# Altium integrated library Linear Technology Power Management LDO Linear Regulators.IntLib: 2339 symbols (part 104 of 131)
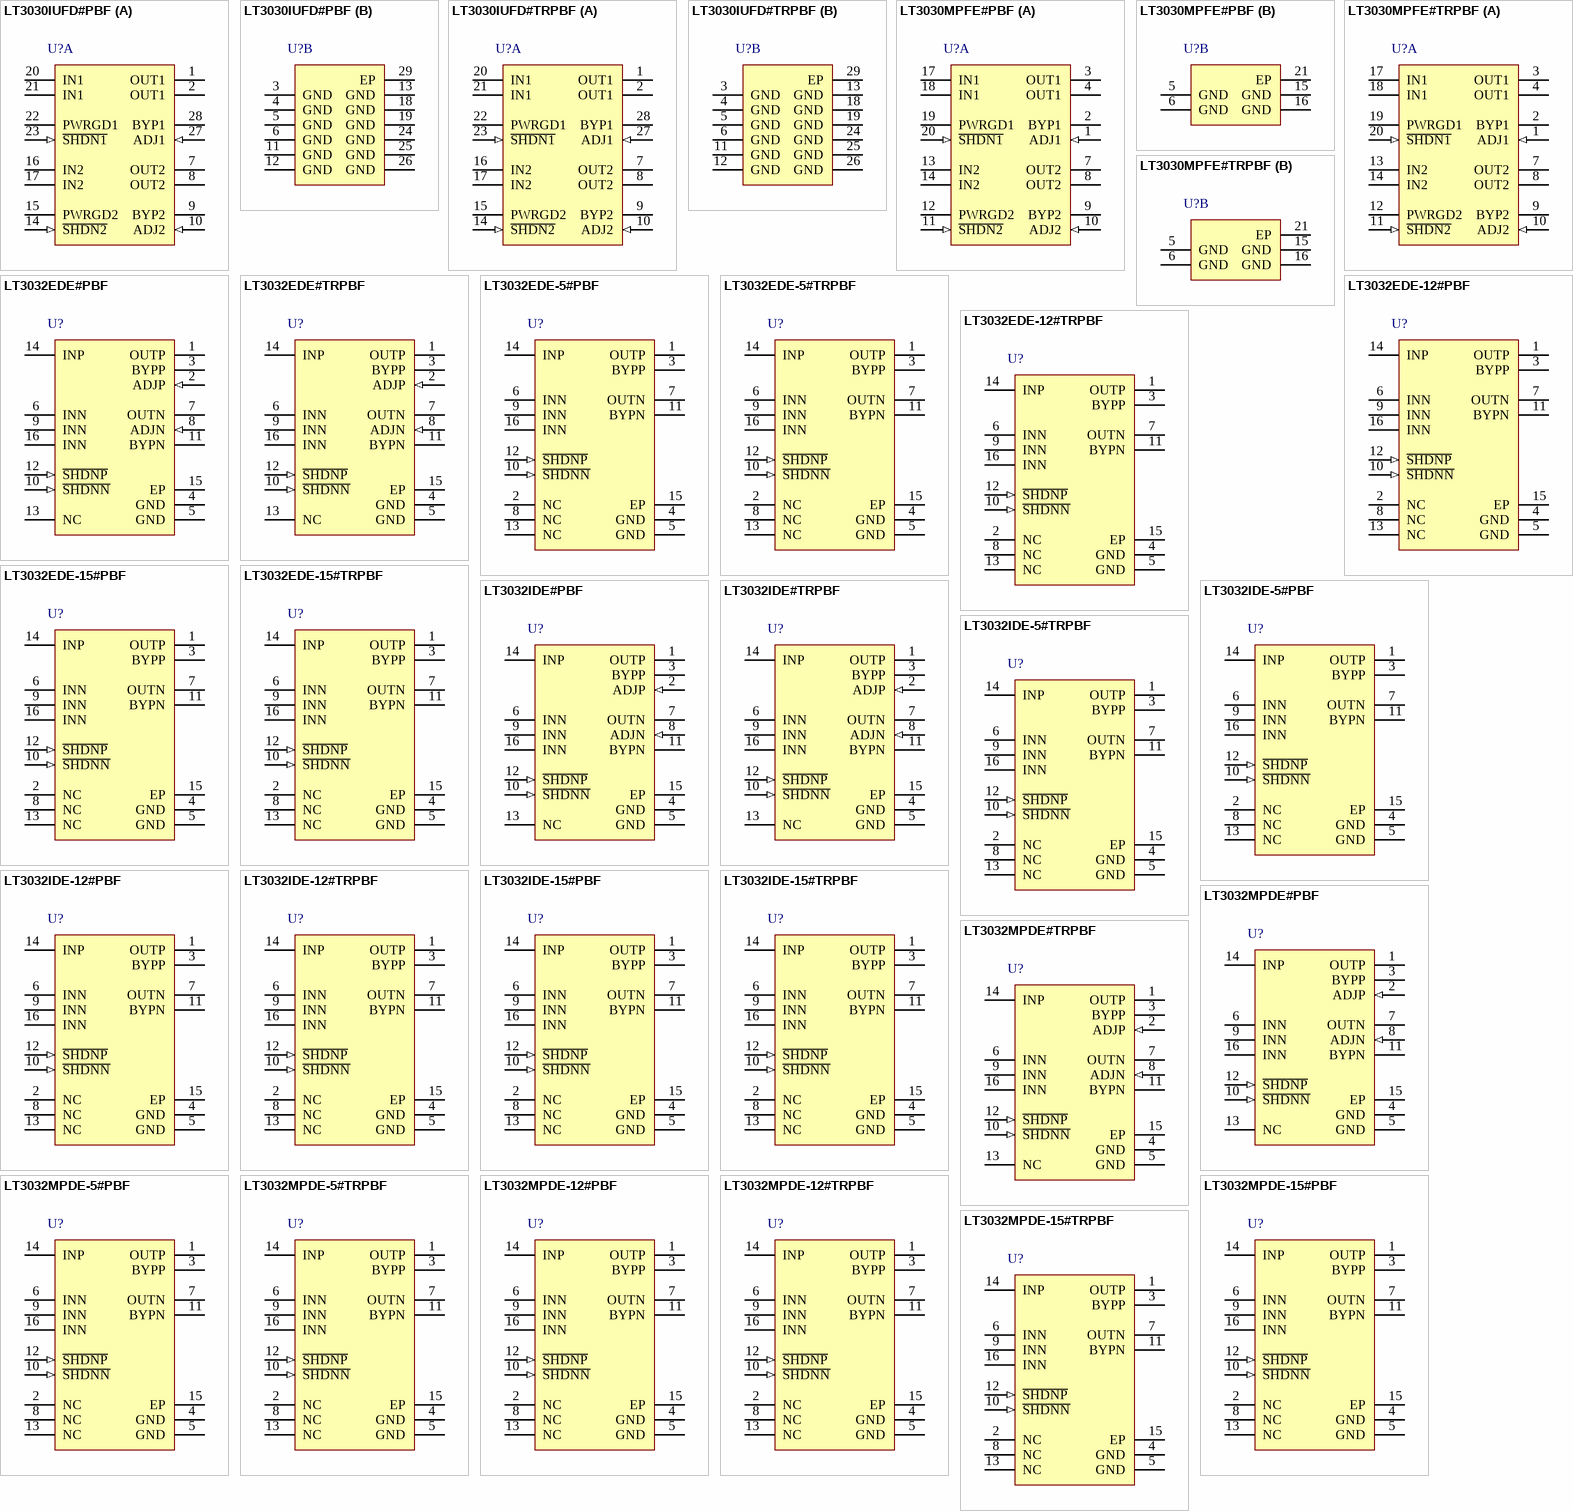
[diagram p172: symbols LT3030IUFD#PBF to LT3032MPDE-15#TRPBF]

## LT3032IDE-12#PBF
designator U?
Dual 150 mA Positive / Negative Low Noise Low Dropout Linear Regulator, +/-2.3 to +/-20 V Vin, +/-12 V Vout, 14-pin SON (DE14MA-14), -40 to 125 degC, Pb-Free; Manufacturer: Linear Technology; PartNumber: LT3032IDE-12#PBF; Discrete Pass Element: no; Dropout Voltage(V): 0.3; Iout(mA): 150; Isupply(mA): 0.025; Noise(uV): 30; Number of Outputs: 2; Output Voltage: +/-12V; PSRR(dB): 68; Shutdown Current(uA): 0.1; DatasheetVersion: Rev. D; PackageVersion: Rev. A, 06/2010; PackageReference: DE14MA-14; PackageDescription: 14-Pin Plastic DFN, Body 4 x 3 mm, Pitch 0.5 mm; Supplier 1: Digi-Key; Supplier Part Number 1: LT3032IDE-12#PBF-ND; RoHS: TRUE; Vin Max(V): +/-20; Vin Min(V): +/-2.3; Vout Max(V): +/-12; Vout Min(V): +/-12; Mounting Technology: Surface Mount; ComponentLink1Description: Manufacturer URL; ComponentLink1URL: http://www.linear.com/; ComponentLink2Description: Datasheet; ComponentLink2URL: http://cds.linear.com/docs/en/datasheet/3032fd.pdf; ComponentLink3Description: Package Specification; ComponentLink3URL: http://cds.linear.com/docs/en/packaging/DFN_14_05-08-1731.pdf
footprint LT-DE14MA-14_V (DE14MA, 14-Leads, Body 4x3mm, Pitch 0.5mm)
pins: 1 OUTP (power) "Positive Output. This output supplies power to the positive side load. A minimum output capacitor of 2.2uF is required to prevent oscillations. Larger output capacitors are required for applications with large transient (See Datasheet)", 2 NC "No Connect. The No Connect pin has no connection to internal circuitry and may be tied to INP, GND, INN, S\H\D\N\P\, S\H\D\N\N\, OUTP, OUTN, floated, or tied to any other point.", 3 BYPP "Positive Bypass. The BYPP pin is used to bypass the reference of the positive side regulator to achieve low noise performance. The BYPP pin is clamped internally to +/-0.6V (one VBE). A small capacitor from OUTP to this pin (See Datasheet)", 4 GND (power) "Ground. One of the DFN's exposed backside pads (Pin 15) is an electrical connection to ground. To ensure proper electrical and thermal performance, solder Pin 15 to the PCB's ground and tie directly to Pins 4 and(See Datasheet)", 5 GND (power) "Ground. One of the DFN's exposed backside pads (Pin 15) is an electrical connection to ground. To ensure proper electrical and thermal performance, solder Pin 15 to the PCB's ground and tie directly to Pins 4 and(See Datasheet)", 6 INN (power) "Negative Input. The DFN package's second exposed backside pad (Pin 16) is an electrical connection to INN. To ensure proper electrical and thermal performance, solder Pin 16 to the PCB's negative input supply and (See Datasheet)", 7 OUTN (power) "Negative Output. This output supplies power to the negative side load. A minimum output capacitor of 1uF is required to prevent oscillations. Larger output capacitors are required for applications with large transient loads (See Datasheet)", 8 NC "No Connect. The No Connect pin has no connection to internal circuitry and may be tied to INP, GND, INN, S\H\D\N\P\, S\H\D\N\N\, OUTP, OUTN, floated, or tied to any other point.", 9 INN (power) "Negative Input. The DFN package's second exposed backside pad (Pin 16) is an electrical connection to INN. To ensure proper electrical and thermal performance, solder Pin 16 to the PCB's negative input supply and (See Datasheet)", 10 ~{SHDNN} (in) "Negative Shutdown. The S\H\D\N\N\ pin puts the negative side into a low power shutdown state. The S\H\D\N\N\ pin is referenced to ground for regulator control, allowing the negative side to be driven by either positive or (See Datasheet)", 11 BYPN "Negative Bypass. The BYPN pin is used to bypass the reference of the negative side regulator to achieve low noise performance. A small capacitor from OUTN to this pin will bypass the reference to lower the output voltage (See Datasheet)", 12 ~{SHDNP} (in) "Positive Shutdown. The S\H\D\N\P\ pin puts the positive side into a low power shutdown state. The positive output will be off when the S\H\D\N\P\ pin is pulled below 0.6V(typical). The S\H\D\N\P\ pin can be driven by 5V (See Datasheet)", 13 NC "No Connect. The No Connect pin has no connection to internal circuitry and may be tied to INP, GND, INN, S\H\D\N\P\, S\H\D\N\N\, OUTP, OUTN, floated, or tied to any other point.", 14 INP (power) "Positive Input. Power is supplied to the positive side of the LT3032 through the INP pin. A bypass capacitor is required on this pin if it is more than six inches away from the main input filter capacitor. In general, the (See Datasheet)", 15 EP (power) "Ground. One of the DFN's exposed backside pads (Pin 15) is an electrical connection to ground. To ensure proper electrical and thermal performance, solder Pin 15 to the PCB's ground and tie directly to Pins 4 and(See Datasheet)", 16 INN (power) "Negative Input. The DFN package's second exposed backside pad (Pin 16) is an electrical connection to INN. To ensure proper electrical and thermal performance, solder Pin 16 to the PCB's negative input supply and (See Datasheet)"

## LT3032IDE-12#TRPBF
designator U?
Dual 150 mA Positive / Negative Low Noise Low Dropout Linear Regulator, +/-2.3 to +/-20 V Vin, +/-12 V Vout, 14-pin SON (DE14MA-14), -40 to 125 degC, Pb-Free, Tape and Reel; Manufacturer: Linear Technology; PartNumber: LT3032IDE-12#TRPBF; Discrete Pass Element: no; Dropout Voltage(V): 0.3; Iout(mA): 150; Isupply(mA): 0.025; Noise(uV): 30; Number of Outputs: 2; Output Voltage: +/-12V; PSRR(dB): 68; Shutdown Current(uA): 0.1; DatasheetVersion: Rev. D; PackageVersion: Rev. A, 06/2010; PackageReference: DE14MA-14; PackageDescription: 14-Pin Plastic DFN, Body 4 x 3 mm, Pitch 0.5 mm; Supplier 1: Digi-Key; Supplier Part Number 1: LT3032IDE-12#TRPBF-ND; Supplier 2: Newark; Supplier Part Number 2: 78T3945; Packing: Tape and Reel; RoHS: TRUE; Vin Max(V): +/-20; Vin Min(V): +/-2.3; Vout Max(V): +/-12; Vout Min(V): +/-12; Mounting Technology: Surface Mount; ComponentLink1Description: Manufacturer URL; ComponentLink1URL: http://www.linear.com/; ComponentLink2Description: Datasheet; ComponentLink2URL: http://cds.linear.com/docs/en/datasheet/3032fd.pdf; ComponentLink3Description: Package Specification; ComponentLink3URL: http://cds.linear.com/docs/en/packaging/DFN_14_05-08-1731.pdf
footprint LT-DE14MA-14_V (DE14MA, 14-Leads, Body 4x3mm, Pitch 0.5mm)
pins: 1 OUTP (power) "Positive Output. This output supplies power to the positive side load. A minimum output capacitor of 2.2uF is required to prevent oscillations. Larger output capacitors are required for applications with large transient (See Datasheet)", 2 NC "No Connect. The No Connect pin has no connection to internal circuitry and may be tied to INP, GND, INN, S\H\D\N\P\, S\H\D\N\N\, OUTP, OUTN, floated, or tied to any other point.", 3 BYPP "Positive Bypass. The BYPP pin is used to bypass the reference of the positive side regulator to achieve low noise performance. The BYPP pin is clamped internally to +/-0.6V (one VBE). A small capacitor from OUTP to this pin (See Datasheet)", 4 GND (power) "Ground. One of the DFN's exposed backside pads (Pin 15) is an electrical connection to ground. To ensure proper electrical and thermal performance, solder Pin 15 to the PCB's ground and tie directly to Pins 4 and(See Datasheet)", 5 GND (power) "Ground. One of the DFN's exposed backside pads (Pin 15) is an electrical connection to ground. To ensure proper electrical and thermal performance, solder Pin 15 to the PCB's ground and tie directly to Pins 4 and(See Datasheet)", 6 INN (power) "Negative Input. The DFN package's second exposed backside pad (Pin 16) is an electrical connection to INN. To ensure proper electrical and thermal performance, solder Pin 16 to the PCB's negative input supply and (See Datasheet)", 7 OUTN (power) "Negative Output. This output supplies power to the negative side load. A minimum output capacitor of 1uF is required to prevent oscillations. Larger output capacitors are required for applications with large transient loads (See Datasheet)", 8 NC "No Connect. The No Connect pin has no connection to internal circuitry and may be tied to INP, GND, INN, S\H\D\N\P\, S\H\D\N\N\, OUTP, OUTN, floated, or tied to any other point.", 9 INN (power) "Negative Input. The DFN package's second exposed backside pad (Pin 16) is an electrical connection to INN. To ensure proper electrical and thermal performance, solder Pin 16 to the PCB's negative input supply and (See Datasheet)", 10 ~{SHDNN} (in) "Negative Shutdown. The S\H\D\N\N\ pin puts the negative side into a low power shutdown state. The S\H\D\N\N\ pin is referenced to ground for regulator control, allowing the negative side to be driven by either positive or (See Datasheet)", 11 BYPN "Negative Bypass. The BYPN pin is used to bypass the reference of the negative side regulator to achieve low noise performance. A small capacitor from OUTN to this pin will bypass the reference to lower the output voltage (See Datasheet)", 12 ~{SHDNP} (in) "Positive Shutdown. The S\H\D\N\P\ pin puts the positive side into a low power shutdown state. The positive output will be off when the S\H\D\N\P\ pin is pulled below 0.6V(typical). The S\H\D\N\P\ pin can be driven by 5V (See Datasheet)", 13 NC "No Connect. The No Connect pin has no connection to internal circuitry and may be tied to INP, GND, INN, S\H\D\N\P\, S\H\D\N\N\, OUTP, OUTN, floated, or tied to any other point.", 14 INP (power) "Positive Input. Power is supplied to the positive side of the LT3032 through the INP pin. A bypass capacitor is required on this pin if it is more than six inches away from the main input filter capacitor. In general, the (See Datasheet)", 15 EP (power) "Ground. One of the DFN's exposed backside pads (Pin 15) is an electrical connection to ground. To ensure proper electrical and thermal performance, solder Pin 15 to the PCB's ground and tie directly to Pins 4 and(See Datasheet)", 16 INN (power) "Negative Input. The DFN package's second exposed backside pad (Pin 16) is an electrical connection to INN. To ensure proper electrical and thermal performance, solder Pin 16 to the PCB's negative input supply and (See Datasheet)"

## LT3032IDE-15#PBF
designator U?
Dual 150 mA Positive / Negative Low Noise Low Dropout Linear Regulator, +/-2.3 to +/-20 V Vin, +/-15 V Vout, 14-pin SON (DE14MA-14), -40 to 125 degC, Pb-Free; Manufacturer: Linear Technology; PartNumber: LT3032IDE-15#PBF; Discrete Pass Element: no; Dropout Voltage(V): 0.3; Iout(mA): 150; Isupply(mA): 0.025; Noise(uV): 30; Number of Outputs: 2; Output Voltage: +/-15V; PSRR(dB): 68; Shutdown Current(uA): 0.1; DatasheetVersion: Rev. D; PackageVersion: Rev. A, 06/2010; PackageReference: DE14MA-14; PackageDescription: 14-Pin Plastic DFN, Body 4 x 3 mm, Pitch 0.5 mm; Supplier 1: Digi-Key; Supplier Part Number 1: LT3032IDE-15#PBF-ND; Supplier 2: Newark; Supplier Part Number 2: 78T3946; RoHS: TRUE; Vin Max(V): +/-20; Vin Min(V): +/-2.3; Vout Max(V): +/-15; Vout Min(V): +/-15; Mounting Technology: Surface Mount; ComponentLink1Description: Manufacturer URL; ComponentLink1URL: http://www.linear.com/; ComponentLink2Description: Datasheet; ComponentLink2URL: http://cds.linear.com/docs/en/datasheet/3032fd.pdf; ComponentLink3Description: Package Specification; ComponentLink3URL: http://cds.linear.com/docs/en/packaging/DFN_14_05-08-1731.pdf
footprint LT-DE14MA-14_V (DE14MA, 14-Leads, Body 4x3mm, Pitch 0.5mm)
pins: 1 OUTP (power) "Positive Output. This output supplies power to the positive side load. A minimum output capacitor of 2.2uF is required to prevent oscillations. Larger output capacitors are required for applications with large transient (See Datasheet)", 2 NC "No Connect. The No Connect pin has no connection to internal circuitry and may be tied to INP, GND, INN, S\H\D\N\P\, S\H\D\N\N\, OUTP, OUTN, floated, or tied to any other point.", 3 BYPP "Positive Bypass. The BYPP pin is used to bypass the reference of the positive side regulator to achieve low noise performance. The BYPP pin is clamped internally to +/-0.6V (one VBE). A small capacitor from OUTP to this pin (See Datasheet)", 4 GND (power) "Ground. One of the DFN's exposed backside pads (Pin 15) is an electrical connection to ground. To ensure proper electrical and thermal performance, solder Pin 15 to the PCB's ground and tie directly to Pins 4 and(See Datasheet)", 5 GND (power) "Ground. One of the DFN's exposed backside pads (Pin 15) is an electrical connection to ground. To ensure proper electrical and thermal performance, solder Pin 15 to the PCB's ground and tie directly to Pins 4 and(See Datasheet)", 6 INN (power) "Negative Input. The DFN package's second exposed backside pad (Pin 16) is an electrical connection to INN. To ensure proper electrical and thermal performance, solder Pin 16 to the PCB's negative input supply and (See Datasheet)", 7 OUTN (power) "Negative Output. This output supplies power to the negative side load. A minimum output capacitor of 1uF is required to prevent oscillations. Larger output capacitors are required for applications with large transient loads (See Datasheet)", 8 NC "No Connect. The No Connect pin has no connection to internal circuitry and may be tied to INP, GND, INN, S\H\D\N\P\, S\H\D\N\N\, OUTP, OUTN, floated, or tied to any other point.", 9 INN (power) "Negative Input. The DFN package's second exposed backside pad (Pin 16) is an electrical connection to INN. To ensure proper electrical and thermal performance, solder Pin 16 to the PCB's negative input supply and (See Datasheet)", 10 ~{SHDNN} (in) "Negative Shutdown. The S\H\D\N\N\ pin puts the negative side into a low power shutdown state. The S\H\D\N\N\ pin is referenced to ground for regulator control, allowing the negative side to be driven by either positive or (See Datasheet)", 11 BYPN "Negative Bypass. The BYPN pin is used to bypass the reference of the negative side regulator to achieve low noise performance. A small capacitor from OUTN to this pin will bypass the reference to lower the output voltage (See Datasheet)", 12 ~{SHDNP} (in) "Positive Shutdown. The S\H\D\N\P\ pin puts the positive side into a low power shutdown state. The positive output will be off when the S\H\D\N\P\ pin is pulled below 0.6V(typical). The S\H\D\N\P\ pin can be driven by 5V (See Datasheet)", 13 NC "No Connect. The No Connect pin has no connection to internal circuitry and may be tied to INP, GND, INN, S\H\D\N\P\, S\H\D\N\N\, OUTP, OUTN, floated, or tied to any other point.", 14 INP (power) "Positive Input. Power is supplied to the positive side of the LT3032 through the INP pin. A bypass capacitor is required on this pin if it is more than six inches away from the main input filter capacitor. In general, the (See Datasheet)", 15 EP (power) "Ground. One of the DFN's exposed backside pads (Pin 15) is an electrical connection to ground. To ensure proper electrical and thermal performance, solder Pin 15 to the PCB's ground and tie directly to Pins 4 and(See Datasheet)", 16 INN (power) "Negative Input. The DFN package's second exposed backside pad (Pin 16) is an electrical connection to INN. To ensure proper electrical and thermal performance, solder Pin 16 to the PCB's negative input supply and (See Datasheet)"

## LT3032IDE-15#TRPBF
designator U?
Dual 150 mA Positive / Negative Low Noise Low Dropout Linear Regulator, +/-2.3 to +/-20 V Vin, +/-15 V Vout, 14-pin SON (DE14MA-14), -40 to 125 degC, Pb-Free, Tape and Reel; Manufacturer: Linear Technology; PartNumber: LT3032IDE-15#TRPBF; Discrete Pass Element: no; Dropout Voltage(V): 0.3; Iout(mA): 150; Isupply(mA): 0.025; Noise(uV): 30; Number of Outputs: 2; Output Voltage: +/-15V; PSRR(dB): 68; Shutdown Current(uA): 0.1; DatasheetVersion: Rev. D; PackageVersion: Rev. A, 06/2010; PackageReference: DE14MA-14; PackageDescription: 14-Pin Plastic DFN, Body 4 x 3 mm, Pitch 0.5 mm; Supplier 1: Digi-Key; Supplier Part Number 1: LT3032IDE-15#TRPBF-ND; Packing: Tape and Reel; RoHS: TRUE; Vin Max(V): +/-20; Vin Min(V): +/-2.3; Vout Max(V): +/-15; Vout Min(V): +/-15; Mounting Technology: Surface Mount; ComponentLink1Description: Manufacturer URL; ComponentLink1URL: http://www.linear.com/; ComponentLink2Description: Datasheet; ComponentLink2URL: http://cds.linear.com/docs/en/datasheet/3032fd.pdf; ComponentLink3Description: Package Specification; ComponentLink3URL: http://cds.linear.com/docs/en/packaging/DFN_14_05-08-1731.pdf
footprint LT-DE14MA-14_V (DE14MA, 14-Leads, Body 4x3mm, Pitch 0.5mm)
pins: 1 OUTP (power) "Positive Output. This output supplies power to the positive side load. A minimum output capacitor of 2.2uF is required to prevent oscillations. Larger output capacitors are required for applications with large transient (See Datasheet)", 2 NC "No Connect. The No Connect pin has no connection to internal circuitry and may be tied to INP, GND, INN, S\H\D\N\P\, S\H\D\N\N\, OUTP, OUTN, floated, or tied to any other point.", 3 BYPP "Positive Bypass. The BYPP pin is used to bypass the reference of the positive side regulator to achieve low noise performance. The BYPP pin is clamped internally to +/-0.6V (one VBE). A small capacitor from OUTP to this pin (See Datasheet)", 4 GND (power) "Ground. One of the DFN's exposed backside pads (Pin 15) is an electrical connection to ground. To ensure proper electrical and thermal performance, solder Pin 15 to the PCB's ground and tie directly to Pins 4 and(See Datasheet)", 5 GND (power) "Ground. One of the DFN's exposed backside pads (Pin 15) is an electrical connection to ground. To ensure proper electrical and thermal performance, solder Pin 15 to the PCB's ground and tie directly to Pins 4 and(See Datasheet)", 6 INN (power) "Negative Input. The DFN package's second exposed backside pad (Pin 16) is an electrical connection to INN. To ensure proper electrical and thermal performance, solder Pin 16 to the PCB's negative input supply and (See Datasheet)", 7 OUTN (power) "Negative Output. This output supplies power to the negative side load. A minimum output capacitor of 1uF is required to prevent oscillations. Larger output capacitors are required for applications with large transient loads (See Datasheet)", 8 NC "No Connect. The No Connect pin has no connection to internal circuitry and may be tied to INP, GND, INN, S\H\D\N\P\, S\H\D\N\N\, OUTP, OUTN, floated, or tied to any other point.", 9 INN (power) "Negative Input. The DFN package's second exposed backside pad (Pin 16) is an electrical connection to INN. To ensure proper electrical and thermal performance, solder Pin 16 to the PCB's negative input supply and (See Datasheet)", 10 ~{SHDNN} (in) "Negative Shutdown. The S\H\D\N\N\ pin puts the negative side into a low power shutdown state. The S\H\D\N\N\ pin is referenced to ground for regulator control, allowing the negative side to be driven by either positive or (See Datasheet)", 11 BYPN "Negative Bypass. The BYPN pin is used to bypass the reference of the negative side regulator to achieve low noise performance. A small capacitor from OUTN to this pin will bypass the reference to lower the output voltage (See Datasheet)", 12 ~{SHDNP} (in) "Positive Shutdown. The S\H\D\N\P\ pin puts the positive side into a low power shutdown state. The positive output will be off when the S\H\D\N\P\ pin is pulled below 0.6V(typical). The S\H\D\N\P\ pin can be driven by 5V (See Datasheet)", 13 NC "No Connect. The No Connect pin has no connection to internal circuitry and may be tied to INP, GND, INN, S\H\D\N\P\, S\H\D\N\N\, OUTP, OUTN, floated, or tied to any other point.", 14 INP (power) "Positive Input. Power is supplied to the positive side of the LT3032 through the INP pin. A bypass capacitor is required on this pin if it is more than six inches away from the main input filter capacitor. In general, the (See Datasheet)", 15 EP (power) "Ground. One of the DFN's exposed backside pads (Pin 15) is an electrical connection to ground. To ensure proper electrical and thermal performance, solder Pin 15 to the PCB's ground and tie directly to Pins 4 and(See Datasheet)", 16 INN (power) "Negative Input. The DFN package's second exposed backside pad (Pin 16) is an electrical connection to INN. To ensure proper electrical and thermal performance, solder Pin 16 to the PCB's negative input supply and (See Datasheet)"

## LT3032MPDE#PBF
designator U?
Dual 150 mA Positive / Negative Low Noise Low Dropout Linear Regulator, +/-2.3 to +/-20 V Vin, Adjustable Vout, 14-pin SON (DE14MA-14), -55 to 125 degC, Pb-Free; Manufacturer: Linear Technology; PartNumber: LT3032MPDE#PBF; Discrete Pass Element: no; Dropout Voltage(V): 0.3; Iout(mA): 150; Isupply(mA): 0.025; Noise(uV): 30; Number of Outputs: 2; Output Voltage: Adj,-Adj; PSRR(dB): 68; Shutdown Current(uA): 0.1; Vout Min(V): +/-1.22; DatasheetVersion: Rev. D; PackageVersion: Rev. A, 06/2010; PackageReference: DE14MA-14; PackageDescription: 14-Pin Plastic DFN, Body 4 x 3 mm, Pitch 0.5 mm; Supplier 1: Digi-Key; Supplier Part Number 1: LT3032MPDE#PBF-ND; Supplier 2: Newark; Supplier Part Number 2: 94T1345; RoHS: TRUE; Vin Max(V): +/-20; Vin Min(V): +/-2.3; Vout Max(V): +/-20; Mounting Technology: Surface Mount; ComponentLink1Description: Manufacturer URL; ComponentLink1URL: http://www.linear.com/; ComponentLink2Description: Datasheet; ComponentLink2URL: http://cds.linear.com/docs/en/datasheet/3032fd.pdf; ComponentLink3Description: Package Specification; ComponentLink3URL: http://cds.linear.com/docs/en/packaging/DFN_14_05-08-1731.pdf
footprint LT-DE14MA-14_V (DE14MA, 14-Leads, Body 4x3mm, Pitch 0.5mm)
pins: 1 OUTP (power) "Positive Output. This output supplies power to the positive side load. A minimum output capacitor of 2.2uF is required to prevent oscillations. Larger output capacitors are required for applications with large transient (See Datasheet)", 2 ADJP (in) "Positive Adjust. This is the input to the positive side error amplifier. This pin is internally clamped to +/-7V. It has a typical bias current of 30nA which flows into the pin (see curve of ADJP Pin Bias Current vs (See Datasheet)", 3 BYPP "Positive Bypass. The BYPP pin is used to bypass the reference of the positive side regulator to achieve low noise performance. The BYPP pin is clamped internally to +/-0.6V (one VBE). A small capacitor from OUTP to this pin (See Datasheet)", 4 GND (power) "Ground. One of the DFN's exposed backside pads (Pin 15) is an electrical connection to ground. To ensure proper electrical and thermal performance, solder Pin 15 to the PCB's ground and tie directly to Pins 4 and(See Datasheet)", 5 GND (power) "Ground. One of the DFN's exposed backside pads (Pin 15) is an electrical connection to ground. To ensure proper electrical and thermal performance, solder Pin 15 to the PCB's ground and tie directly to Pins 4 and(See Datasheet)", 6 INN (power) "Negative Input. The DFN package's second exposed backside pad (Pin 16) is an electrical connection to INN. To ensure proper electrical and thermal performance, solder Pin 16 to the PCB's negative input supply and (See Datasheet)", 7 OUTN (power) "Negative Output. This output supplies power to the negative side load. A minimum output capacitor of 1uF is required to prevent oscillations. Larger output capacitors are required for applications with large transient loads (See Datasheet)", 8 ADJN (in) "Negative Adjust. This is the input to the negative side error amplifier. The ADJN pin has a typical bias current of 30nA that flows out of the pin. The ADJN pin voltage is -1.22V referenced to ground, and the output voltage (See Datasheet)", 9 INN (power) "Negative Input. The DFN package's second exposed backside pad (Pin 16) is an electrical connection to INN. To ensure proper electrical and thermal performance, solder Pin 16 to the PCB's negative input supply and (See Datasheet)", 10 ~{SHDNN} (in) "Negative Shutdown. The S\H\D\N\N\ pin puts the negative side into a low power shutdown state. The S\H\D\N\N\ pin is referenced to ground for regulator control, allowing the negative side to be driven by either positive or (See Datasheet)", 11 BYPN "Negative Bypass. The BYPN pin is used to bypass the reference of the negative side regulator to achieve low noise performance. A small capacitor from OUTN to this pin will bypass the reference to lower the output voltage (See Datasheet)", 12 ~{SHDNP} (in) "Positive Shutdown. The S\H\D\N\P\ pin puts the positive side into a low power shutdown state. The positive output will be off when the S\H\D\N\P\ pin is pulled below 0.6V(typical). The S\H\D\N\P\ pin can be driven by 5V (See Datasheet)", 13 NC "No Connect. The No Connect pin has no connection to internal circuitry and may be tied to INP, GND, INN, S\H\D\N\P\, S\H\D\N\N\, OUTP, OUTN, floated, or tied to any other point.", 14 INP (power) "Positive Input. Power is supplied to the positive side of the LT3032 through the INP pin. A bypass capacitor is required on this pin if it is more than six inches away from the main input filter capacitor. In general, the (See Datasheet)", 15 EP (power) "Ground. One of the DFN's exposed backside pads (Pin 15) is an electrical connection to ground. To ensure proper electrical and thermal performance, solder Pin 15 to the PCB's ground and tie directly to Pins 4 and(See Datasheet)", 16 INN (power) "Negative Input. The DFN package's second exposed backside pad (Pin 16) is an electrical connection to INN. To ensure proper electrical and thermal performance, solder Pin 16 to the PCB's negative input supply and (See Datasheet)"

## LT3032MPDE#TRPBF
designator U?
Dual 150 mA Positive / Negative Low Noise Low Dropout Linear Regulator, +/-2.3 to +/-20 V Vin, Adjustable Vout, 14-pin SON (DE14MA-14), -55 to 125 degC, Pb-Free, Tape and Reel; Manufacturer: Linear Technology; PartNumber: LT3032MPDE#TRPBF; Discrete Pass Element: no; Dropout Voltage(V): 0.3; Iout(mA): 150; Isupply(mA): 0.025; Noise(uV): 30; Number of Outputs: 2; Output Voltage: Adj,-Adj; PSRR(dB): 68; Shutdown Current(uA): 0.1; Vout Min(V): +/-1.22; DatasheetVersion: Rev. D; PackageVersion: Rev. A, 06/2010; PackageReference: DE14MA-14; PackageDescription: 14-Pin Plastic DFN, Body 4 x 3 mm, Pitch 0.5 mm; Supplier 1: Digi-Key; Supplier Part Number 1: LT3032MPDE#TRPBF-ND; Packing: Tape and Reel; RoHS: TRUE; Vin Max(V): +/-20; Vin Min(V): +/-2.3; Vout Max(V): +/-20; Mounting Technology: Surface Mount; ComponentLink1Description: Manufacturer URL; ComponentLink1URL: http://www.linear.com/; ComponentLink2Description: Datasheet; ComponentLink2URL: http://cds.linear.com/docs/en/datasheet/3032fd.pdf; ComponentLink3Description: Package Specification; ComponentLink3URL: http://cds.linear.com/docs/en/packaging/DFN_14_05-08-1731.pdf
footprint LT-DE14MA-14_V (DE14MA, 14-Leads, Body 4x3mm, Pitch 0.5mm)
pins: 1 OUTP (power) "Positive Output. This output supplies power to the positive side load. A minimum output capacitor of 2.2uF is required to prevent oscillations. Larger output capacitors are required for applications with large transient (See Datasheet)", 2 ADJP (in) "Positive Adjust. This is the input to the positive side error amplifier. This pin is internally clamped to +/-7V. It has a typical bias current of 30nA which flows into the pin (see curve of ADJP Pin Bias Current vs (See Datasheet)", 3 BYPP "Positive Bypass. The BYPP pin is used to bypass the reference of the positive side regulator to achieve low noise performance. The BYPP pin is clamped internally to +/-0.6V (one VBE). A small capacitor from OUTP to this pin (See Datasheet)", 4 GND (power) "Ground. One of the DFN's exposed backside pads (Pin 15) is an electrical connection to ground. To ensure proper electrical and thermal performance, solder Pin 15 to the PCB's ground and tie directly to Pins 4 and(See Datasheet)", 5 GND (power) "Ground. One of the DFN's exposed backside pads (Pin 15) is an electrical connection to ground. To ensure proper electrical and thermal performance, solder Pin 15 to the PCB's ground and tie directly to Pins 4 and(See Datasheet)", 6 INN (power) "Negative Input. The DFN package's second exposed backside pad (Pin 16) is an electrical connection to INN. To ensure proper electrical and thermal performance, solder Pin 16 to the PCB's negative input supply and (See Datasheet)", 7 OUTN (power) "Negative Output. This output supplies power to the negative side load. A minimum output capacitor of 1uF is required to prevent oscillations. Larger output capacitors are required for applications with large transient loads (See Datasheet)", 8 ADJN (in) "Negative Adjust. This is the input to the negative side error amplifier. The ADJN pin has a typical bias current of 30nA that flows out of the pin. The ADJN pin voltage is -1.22V referenced to ground, and the output voltage (See Datasheet)", 9 INN (power) "Negative Input. The DFN package's second exposed backside pad (Pin 16) is an electrical connection to INN. To ensure proper electrical and thermal performance, solder Pin 16 to the PCB's negative input supply and (See Datasheet)", 10 ~{SHDNN} (in) "Negative Shutdown. The S\H\D\N\N\ pin puts the negative side into a low power shutdown state. The S\H\D\N\N\ pin is referenced to ground for regulator control, allowing the negative side to be driven by either positive or (See Datasheet)", 11 BYPN "Negative Bypass. The BYPN pin is used to bypass the reference of the negative side regulator to achieve low noise performance. A small capacitor from OUTN to this pin will bypass the reference to lower the output voltage (See Datasheet)", 12 ~{SHDNP} (in) "Positive Shutdown. The S\H\D\N\P\ pin puts the positive side into a low power shutdown state. The positive output will be off when the S\H\D\N\P\ pin is pulled below 0.6V(typical). The S\H\D\N\P\ pin can be driven by 5V (See Datasheet)", 13 NC "No Connect. The No Connect pin has no connection to internal circuitry and may be tied to INP, GND, INN, S\H\D\N\P\, S\H\D\N\N\, OUTP, OUTN, floated, or tied to any other point.", 14 INP (power) "Positive Input. Power is supplied to the positive side of the LT3032 through the INP pin. A bypass capacitor is required on this pin if it is more than six inches away from the main input filter capacitor. In general, the (See Datasheet)", 15 EP (power) "Ground. One of the DFN's exposed backside pads (Pin 15) is an electrical connection to ground. To ensure proper electrical and thermal performance, solder Pin 15 to the PCB's ground and tie directly to Pins 4 and(See Datasheet)", 16 INN (power) "Negative Input. The DFN package's second exposed backside pad (Pin 16) is an electrical connection to INN. To ensure proper electrical and thermal performance, solder Pin 16 to the PCB's negative input supply and (See Datasheet)"

## LT3032MPDE-5#PBF
designator U?
Dual 150 mA Positive / Negative Low Noise Low Dropout Linear Regulator, +/-2.3 to +/-20 V Vin, +/-5 V Vout, 14-pin SON (DE14MA-14), -55 to 125 degC, Pb-Free; Manufacturer: Linear Technology; PartNumber: LT3032MPDE-5#PBF; Discrete Pass Element: no; Dropout Voltage(V): 0.3; Iout(mA): 150; Isupply(mA): 0.025; Noise(uV): 30; Number of Outputs: 2; Output Voltage: +/-5V; PSRR(dB): 68; Shutdown Current(uA): 0.1; DatasheetVersion: Rev. D; PackageVersion: Rev. A, 06/2010; PackageReference: DE14MA-14; PackageDescription: 14-Pin Plastic DFN, Body 4 x 3 mm, Pitch 0.5 mm; Supplier 1: Digi-Key; Supplier Part Number 1: LT3032MPDE-5#PBF-ND; RoHS: TRUE; Vin Max(V): +/-20; Vin Min(V): +/-2.3; Vout Max(V): +/-5; Vout Min(V): +/-5; Mounting Technology: Surface Mount; ComponentLink1Description: Manufacturer URL; ComponentLink1URL: http://www.linear.com/; ComponentLink2Description: Datasheet; ComponentLink2URL: http://cds.linear.com/docs/en/datasheet/3032fd.pdf; ComponentLink3Description: Package Specification; ComponentLink3URL: http://cds.linear.com/docs/en/packaging/DFN_14_05-08-1731.pdf
footprint LT-DE14MA-14_V (DE14MA, 14-Leads, Body 4x3mm, Pitch 0.5mm)
pins: 1 OUTP (power) "Positive Output. This output supplies power to the positive side load. A minimum output capacitor of 2.2uF is required to prevent oscillations. Larger output capacitors are required for applications with large transient (See Datasheet)", 2 NC "No Connect. The No Connect pin has no connection to internal circuitry and may be tied to INP, GND, INN, S\H\D\N\P\, S\H\D\N\N\, OUTP, OUTN, floated, or tied to any other point.", 3 BYPP "Positive Bypass. The BYPP pin is used to bypass the reference of the positive side regulator to achieve low noise performance. The BYPP pin is clamped internally to +/-0.6V (one VBE). A small capacitor from OUTP to this pin (See Datasheet)", 4 GND (power) "Ground. One of the DFN's exposed backside pads (Pin 15) is an electrical connection to ground. To ensure proper electrical and thermal performance, solder Pin 15 to the PCB's ground and tie directly to Pins 4 and(See Datasheet)", 5 GND (power) "Ground. One of the DFN's exposed backside pads (Pin 15) is an electrical connection to ground. To ensure proper electrical and thermal performance, solder Pin 15 to the PCB's ground and tie directly to Pins 4 and(See Datasheet)", 6 INN (power) "Negative Input. The DFN package's second exposed backside pad (Pin 16) is an electrical connection to INN. To ensure proper electrical and thermal performance, solder Pin 16 to the PCB's negative input supply and (See Datasheet)", 7 OUTN (power) "Negative Output. This output supplies power to the negative side load. A minimum output capacitor of 1uF is required to prevent oscillations. Larger output capacitors are required for applications with large transient loads (See Datasheet)", 8 NC "No Connect. The No Connect pin has no connection to internal circuitry and may be tied to INP, GND, INN, S\H\D\N\P\, S\H\D\N\N\, OUTP, OUTN, floated, or tied to any other point.", 9 INN (power) "Negative Input. The DFN package's second exposed backside pad (Pin 16) is an electrical connection to INN. To ensure proper electrical and thermal performance, solder Pin 16 to the PCB's negative input supply and (See Datasheet)", 10 ~{SHDNN} (in) "Negative Shutdown. The S\H\D\N\N\ pin puts the negative side into a low power shutdown state. The S\H\D\N\N\ pin is referenced to ground for regulator control, allowing the negative side to be driven by either positive or (See Datasheet)", 11 BYPN "Negative Bypass. The BYPN pin is used to bypass the reference of the negative side regulator to achieve low noise performance. A small capacitor from OUTN to this pin will bypass the reference to lower the output voltage (See Datasheet)", 12 ~{SHDNP} (in) "Positive Shutdown. The S\H\D\N\P\ pin puts the positive side into a low power shutdown state. The positive output will be off when the S\H\D\N\P\ pin is pulled below 0.6V(typical). The S\H\D\N\P\ pin can be driven by 5V (See Datasheet)", 13 NC "No Connect. The No Connect pin has no connection to internal circuitry and may be tied to INP, GND, INN, S\H\D\N\P\, S\H\D\N\N\, OUTP, OUTN, floated, or tied to any other point.", 14 INP (power) "Positive Input. Power is supplied to the positive side of the LT3032 through the INP pin. A bypass capacitor is required on this pin if it is more than six inches away from the main input filter capacitor. In general, the (See Datasheet)", 15 EP (power) "Ground. One of the DFN's exposed backside pads (Pin 15) is an electrical connection to ground. To ensure proper electrical and thermal performance, solder Pin 15 to the PCB's ground and tie directly to Pins 4 and(See Datasheet)", 16 INN (power) "Negative Input. The DFN package's second exposed backside pad (Pin 16) is an electrical connection to INN. To ensure proper electrical and thermal performance, solder Pin 16 to the PCB's negative input supply and (See Datasheet)"

## LT3032MPDE-5#TRPBF
designator U?
Dual 150 mA Positive / Negative Low Noise Low Dropout Linear Regulator, +/-2.3 to +/-20 V Vin, +/-5 V Vout, 14-pin SON (DE14MA-14), -55 to 125 degC, Pb-Free, Tape and Reel; Manufacturer: Linear Technology; PartNumber: LT3032MPDE-5#TRPBF; Discrete Pass Element: no; Dropout Voltage(V): 0.3; Iout(mA): 150; Isupply(mA): 0.025; Noise(uV): 30; Number of Outputs: 2; Output Voltage: +/-5V; PSRR(dB): 68; Shutdown Current(uA): 0.1; DatasheetVersion: Rev. D; PackageVersion: Rev. A, 06/2010; PackageReference: DE14MA-14; PackageDescription: 14-Pin Plastic DFN, Body 4 x 3 mm, Pitch 0.5 mm; Supplier 1: Digi-Key; Supplier Part Number 1: LT3032MPDE-5#TRPBF-ND; Packing: Tape and Reel; RoHS: TRUE; Vin Max(V): +/-20; Vin Min(V): +/-2.3; Vout Max(V): +/-5V; Vout Min(V): +/-5; Mounting Technology: Surface Mount; ComponentLink1Description: Manufacturer URL; ComponentLink1URL: http://www.linear.com/; ComponentLink2Description: Datasheet; ComponentLink2URL: http://cds.linear.com/docs/en/datasheet/3032fd.pdf; ComponentLink3Description: Package Specification; ComponentLink3URL: http://cds.linear.com/docs/en/packaging/DFN_14_05-08-1731.pdf
footprint LT-DE14MA-14_V (DE14MA, 14-Leads, Body 4x3mm, Pitch 0.5mm)
pins: 1 OUTP (power) "Positive Output. This output supplies power to the positive side load. A minimum output capacitor of 2.2uF is required to prevent oscillations. Larger output capacitors are required for applications with large transient (See Datasheet)", 2 NC "No Connect. The No Connect pin has no connection to internal circuitry and may be tied to INP, GND, INN, S\H\D\N\P\, S\H\D\N\N\, OUTP, OUTN, floated, or tied to any other point.", 3 BYPP "Positive Bypass. The BYPP pin is used to bypass the reference of the positive side regulator to achieve low noise performance. The BYPP pin is clamped internally to +/-0.6V (one VBE). A small capacitor from OUTP to this pin (See Datasheet)", 4 GND (power) "Ground. One of the DFN's exposed backside pads (Pin 15) is an electrical connection to ground. To ensure proper electrical and thermal performance, solder Pin 15 to the PCB's ground and tie directly to Pins 4 and(See Datasheet)", 5 GND (power) "Ground. One of the DFN's exposed backside pads (Pin 15) is an electrical connection to ground. To ensure proper electrical and thermal performance, solder Pin 15 to the PCB's ground and tie directly to Pins 4 and(See Datasheet)", 6 INN (power) "Negative Input. The DFN package's second exposed backside pad (Pin 16) is an electrical connection to INN. To ensure proper electrical and thermal performance, solder Pin 16 to the PCB's negative input supply and (See Datasheet)", 7 OUTN (power) "Negative Output. This output supplies power to the negative side load. A minimum output capacitor of 1uF is required to prevent oscillations. Larger output capacitors are required for applications with large transient loads (See Datasheet)", 8 NC "No Connect. The No Connect pin has no connection to internal circuitry and may be tied to INP, GND, INN, S\H\D\N\P\, S\H\D\N\N\, OUTP, OUTN, floated, or tied to any other point.", 9 INN (power) "Negative Input. The DFN package's second exposed backside pad (Pin 16) is an electrical connection to INN. To ensure proper electrical and thermal performance, solder Pin 16 to the PCB's negative input supply and (See Datasheet)", 10 ~{SHDNN} (in) "Negative Shutdown. The S\H\D\N\N\ pin puts the negative side into a low power shutdown state. The S\H\D\N\N\ pin is referenced to ground for regulator control, allowing the negative side to be driven by either positive or (See Datasheet)", 11 BYPN "Negative Bypass. The BYPN pin is used to bypass the reference of the negative side regulator to achieve low noise performance. A small capacitor from OUTN to this pin will bypass the reference to lower the output voltage (See Datasheet)", 12 ~{SHDNP} (in) "Positive Shutdown. The S\H\D\N\P\ pin puts the positive side into a low power shutdown state. The positive output will be off when the S\H\D\N\P\ pin is pulled below 0.6V(typical). The S\H\D\N\P\ pin can be driven by 5V (See Datasheet)", 13 NC "No Connect. The No Connect pin has no connection to internal circuitry and may be tied to INP, GND, INN, S\H\D\N\P\, S\H\D\N\N\, OUTP, OUTN, floated, or tied to any other point.", 14 INP (power) "Positive Input. Power is supplied to the positive side of the LT3032 through the INP pin. A bypass capacitor is required on this pin if it is more than six inches away from the main input filter capacitor. In general, the (See Datasheet)", 15 EP (power) "Ground. One of the DFN's exposed backside pads (Pin 15) is an electrical connection to ground. To ensure proper electrical and thermal performance, solder Pin 15 to the PCB's ground and tie directly to Pins 4 and(See Datasheet)", 16 INN (power) "Negative Input. The DFN package's second exposed backside pad (Pin 16) is an electrical connection to INN. To ensure proper electrical and thermal performance, solder Pin 16 to the PCB's negative input supply and (See Datasheet)"

## LT3032MPDE-12#PBF
designator U?
Dual 150 mA Positive / Negative Low Noise Low Dropout Linear Regulator, +/-2.3 to +/-20 V Vin, +/-12 V Vout, 14-pin SON (DE14MA-14), -55 to 125 degC, Pb-Free; Manufacturer: Linear Technology; PartNumber: LT3032MPDE-12#PBF; Discrete Pass Element: no; Dropout Voltage(V): 0.3; Iout(mA): 150; Isupply(mA): 0.025; Noise(uV): 30; Number of Outputs: 2; Output Voltage: +/-12V; PSRR(dB): 68; Shutdown Current(uA): 0.1; DatasheetVersion: Rev. D; PackageVersion: Rev. A, 06/2010; PackageReference: DE14MA-14; PackageDescription: 14-Pin Plastic DFN, Body 4 x 3 mm, Pitch 0.5 mm; Supplier 1: Digi-Key; Supplier Part Number 1: LT3032MPDE-12#PBF-ND; Supplier 2: Newark; Supplier Part Number 2: 94T1339; RoHS: TRUE; Vin Max(V): +/-20; Vin Min(V): +/-2.3; Vout Max(V): +/-12; Vout Min(V): +/-12; Mounting Technology: Surface Mount; ComponentLink1Description: Manufacturer URL; ComponentLink1URL: http://www.linear.com/; ComponentLink2Description: Datasheet; ComponentLink2URL: http://cds.linear.com/docs/en/datasheet/3032fd.pdf; ComponentLink3Description: Package Specification; ComponentLink3URL: http://cds.linear.com/docs/en/packaging/DFN_14_05-08-1731.pdf
footprint LT-DE14MA-14_V (DE14MA, 14-Leads, Body 4x3mm, Pitch 0.5mm)
pins: 1 OUTP (power) "Positive Output. This output supplies power to the positive side load. A minimum output capacitor of 2.2uF is required to prevent oscillations. Larger output capacitors are required for applications with large transient (See Datasheet)", 2 NC "No Connect. The No Connect pin has no connection to internal circuitry and may be tied to INP, GND, INN, S\H\D\N\P\, S\H\D\N\N\, OUTP, OUTN, floated, or tied to any other point.", 3 BYPP "Positive Bypass. The BYPP pin is used to bypass the reference of the positive side regulator to achieve low noise performance. The BYPP pin is clamped internally to +/-0.6V (one VBE). A small capacitor from OUTP to this pin (See Datasheet)", 4 GND (power) "Ground. One of the DFN's exposed backside pads (Pin 15) is an electrical connection to ground. To ensure proper electrical and thermal performance, solder Pin 15 to the PCB's ground and tie directly to Pins 4 and(See Datasheet)", 5 GND (power) "Ground. One of the DFN's exposed backside pads (Pin 15) is an electrical connection to ground. To ensure proper electrical and thermal performance, solder Pin 15 to the PCB's ground and tie directly to Pins 4 and(See Datasheet)", 6 INN (power) "Negative Input. The DFN package's second exposed backside pad (Pin 16) is an electrical connection to INN. To ensure proper electrical and thermal performance, solder Pin 16 to the PCB's negative input supply and (See Datasheet)", 7 OUTN (power) "Negative Output. This output supplies power to the negative side load. A minimum output capacitor of 1uF is required to prevent oscillations. Larger output capacitors are required for applications with large transient loads (See Datasheet)", 8 NC "No Connect. The No Connect pin has no connection to internal circuitry and may be tied to INP, GND, INN, S\H\D\N\P\, S\H\D\N\N\, OUTP, OUTN, floated, or tied to any other point.", 9 INN (power) "Negative Input. The DFN package's second exposed backside pad (Pin 16) is an electrical connection to INN. To ensure proper electrical and thermal performance, solder Pin 16 to the PCB's negative input supply and (See Datasheet)", 10 ~{SHDNN} (in) "Negative Shutdown. The S\H\D\N\N\ pin puts the negative side into a low power shutdown state. The S\H\D\N\N\ pin is referenced to ground for regulator control, allowing the negative side to be driven by either positive or (See Datasheet)", 11 BYPN "Negative Bypass. The BYPN pin is used to bypass the reference of the negative side regulator to achieve low noise performance. A small capacitor from OUTN to this pin will bypass the reference to lower the output voltage (See Datasheet)", 12 ~{SHDNP} (in) "Positive Shutdown. The S\H\D\N\P\ pin puts the positive side into a low power shutdown state. The positive output will be off when the S\H\D\N\P\ pin is pulled below 0.6V(typical). The S\H\D\N\P\ pin can be driven by 5V (See Datasheet)", 13 NC "No Connect. The No Connect pin has no connection to internal circuitry and may be tied to INP, GND, INN, S\H\D\N\P\, S\H\D\N\N\, OUTP, OUTN, floated, or tied to any other point.", 14 INP (power) "Positive Input. Power is supplied to the positive side of the LT3032 through the INP pin. A bypass capacitor is required on this pin if it is more than six inches away from the main input filter capacitor. In general, the (See Datasheet)", 15 EP (power) "Ground. One of the DFN's exposed backside pads (Pin 15) is an electrical connection to ground. To ensure proper electrical and thermal performance, solder Pin 15 to the PCB's ground and tie directly to Pins 4 and(See Datasheet)", 16 INN (power) "Negative Input. The DFN package's second exposed backside pad (Pin 16) is an electrical connection to INN. To ensure proper electrical and thermal performance, solder Pin 16 to the PCB's negative input supply and (See Datasheet)"